# Altium schematic symbol library Boards.SchLib: 5 symbols
Pins are listed as number, name and electrical type; pins without a type are passive.

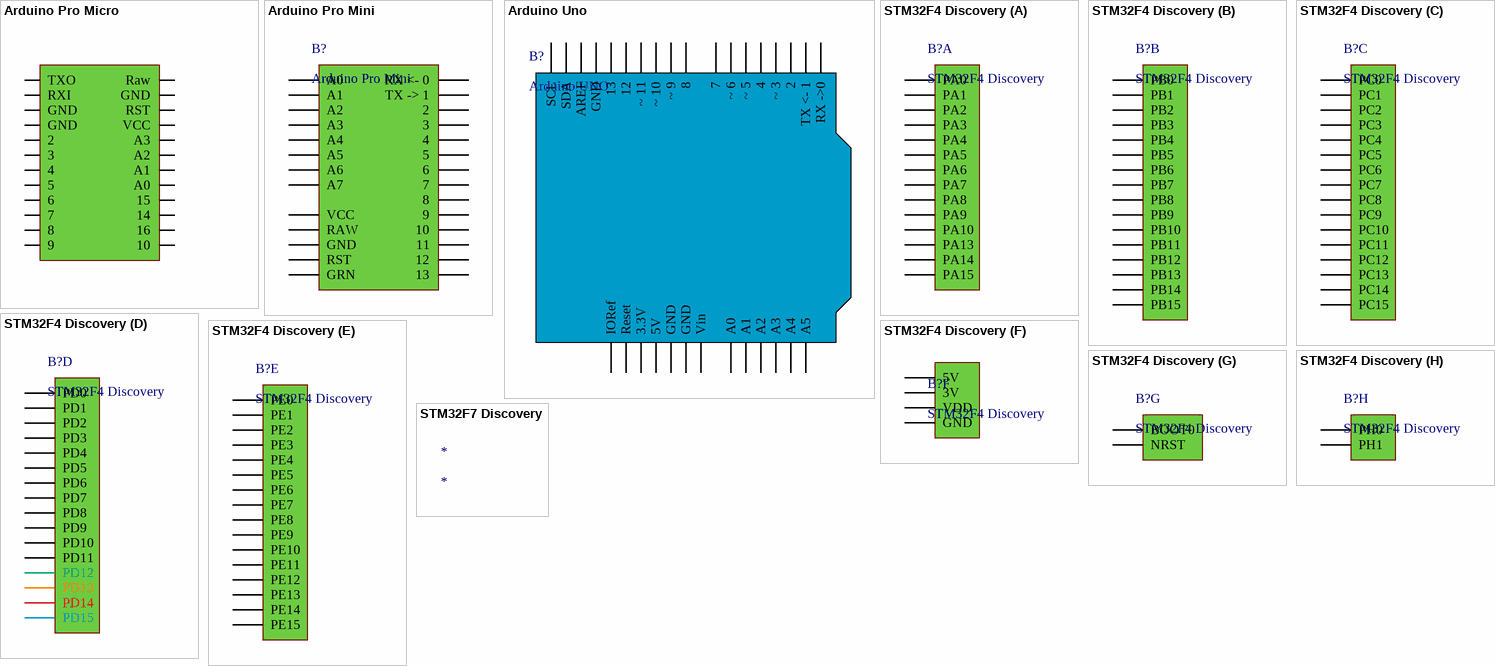
[diagram p0: symbols Arduino Pro Micro to STM32F7 Discovery]

## Arduino Pro Micro
designator B?
Arduino Pro Micro With Atmega32U4
footprint Arduino-Pro-Micro
pins: 1 TXO, 2 RXI, 3 GND, 4 GND, 5 2, 6 3, 7 4, 8 5, 9 6, 10 7, 11 8, 12 9, 13 10, 14 16, 15 14, 16 15, 17 A0, 18 A1, 19 A2, 20 A3, 21 VCC, 22 RST, 23 GND, 24 Raw

## Arduino Pro Mini
designator B?
Arduino Pro Mini With Atmega328
footprint Arduino-pro-mini
pins: 2, 3, 4, 5, 6, 7, 8, 9, 10, 11, 12, 13, A0, A1, A2, A3, A4, A5, A6, A7, GND, GRN, RAW, RST, RX RX <- 0, TX TX -> 1, VCC

## Arduino Uno
designator B?, comment Arduino UNO
Arduino UNO with ATmega328
pins: 0 RX ->0, 1 TX <- 1, 2, 3 ~ 3, 4, 5 ~ 5, 6 ~ 6, 7, 8, 9 ~ 9, 10 ~ 10, 11 ~ 11, 12, 13, 14 A0, 15 A1, 16 A2, 17 A3, 18 A4, 19 A5, 20 Vin, 21 GND, 22 GND, 23 5V, 24 3.3V, 25 Reset, 26 IORef, 27 GND, 28 AREF, 29 SDA, 30 SCL

## STM32F4 Discovery
designator B?
footprint STM32FDiscovery
part A pins: 11 PA1, 12 PA0, 13 PA3, 14 PA2, 15 PA5, 16 PA4, 17 PA7, 18 PA6, 89 PA14, 90 PA15, 91 PA10, 92 PA13, 93 PA8, 94 PA9
part B pins: 21 PB1, 22 PB0, 24 PB2, 34 PB10, 35 PB11, 36 PB12, 37 PB13, 38 PB14, 39 PB15, 69 PB8, 70 PB9, 73 PB6, 74 PB7, 75 PB4, 76 PB5, 78 PB3
part C pins: 7 PC1, 8 PC0, 9 PC3, 10 PC2, 19 PC5, 20 PC4, 59 PC14, 60 PC15, 62 PC13, 85 PC12, 87 PC10, 88 PC11, 95 PC8, 96 PC9, 97 PC6, 98 PC7
part D pins: 40 PD8, 41 PD9, 42 PD10, 43 PD11, 44 PD12, 45 PD13, 46 PD14, 47 PD15, 77 PD7, 79 PD5, 80 PD6, 81 PD3, 82 PD4, 83 PD1, 84 PD2, 86 PD0
part E pins: 25 PE7, 26 PE8, 27 PE9, 28 PE10, 29 PE11, 30 PE12, 31 PE13, 32 PE14, 33 PE15, 61 PE6, 63 PE4, 64 PE5, 65 PE2, 66 PE3, 67 PE0, 68 PE1
part F pins: 3V, 5V, GND, VDD
part G pins: 6 NRST, 71 BOOT0
part H pins: 57 PH0, 58 PH1

## STM32F7 Discovery
designator *